# Altium footprint library 10way dual vertical header.PcbLib: 1 footprints
Each footprint in its own frame and in the unit in brackets; x right, y up, seen from the top. Pads: shape width x height; smd on the part's side, far side on the other; paste and mask are expansions set on the pad; w line width, h text height; cw(c..) or ccw(c..) is an arc to the next point about the centre after c.
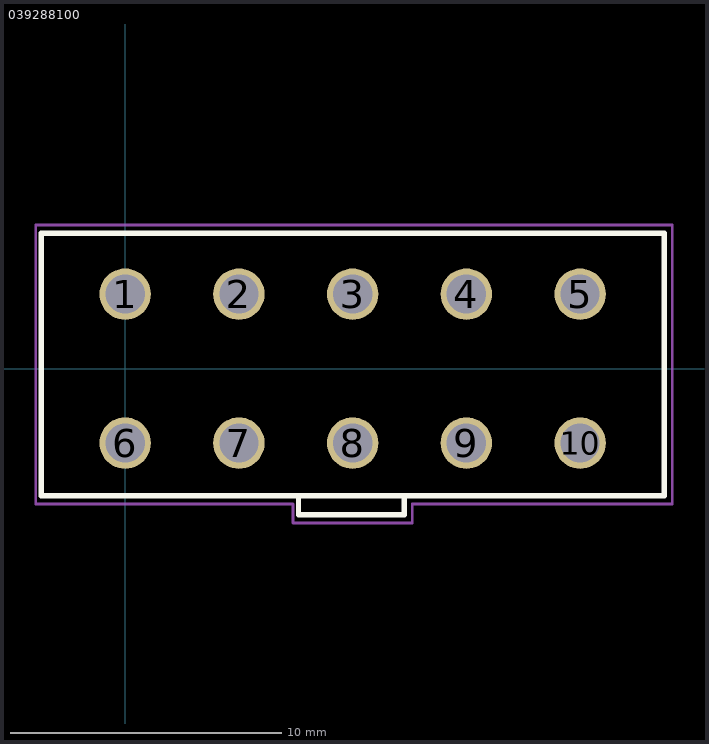
[diagram p0: the footprint, top view; thin cyan lines are the x and y axes]

## 039288100 [mm] "MOLEX - 39-28-8100 - HEADER, MINI-FIT, DUAL ROW, 10WAY"
height 12.8
pads (10):
  round 1.9 hole 1.45: 1(0,2.75) 2(4.2,2.75) 3(8.4,2.75) 4(12.6,2.75) 5(16.8,2.75) 6(0,-2.75) 7(4.2,-2.75) 8(8.4,-2.75) 9(12.6,-2.75) 10(16.8,-2.75)
Top Overlay:
  lines w0.2: 6.4,-4.7 6.4,-5.4 10.3,-5.4 10.3,-4.7 ; 6.4,-4.7 -3.1,-4.7 -3.1,5 19.9,5 19.9,-4.7 10.3,-4.7 ; 6.4,-4.7 10.3,-4.7
Mechanical 15:
  lines w0.1: -3.3,-5 -3.3,5.3 20.2,5.3 20.2,-5 10.6,-5 10.6,-5.7 6.2,-5.7 6.2,-5 -3.3,-5
3D body: height 12.8, standoff -3.5, extent -3.1,-6 19.9,5